# Altium schematic symbol library powerAMP.SchLib: 5 symbols
Pins are listed as number, name and electrical type; pins without a type are passive.

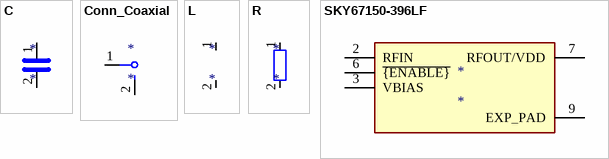
[diagram p0: symbols C to SKY67150-396LF]

## C
designator *
pins: 1, 2

## Conn_Coaxial
designator *
pins: 1 In, 2 Ext

## L
designator *
pins: 1, 2

## R
designator *
pins: 1, 2

## SKY67150-396LF
designator *
pins: 2 RFIN, 3 VBIAS, 6 ~{{ENABLE}}, 7 RFOUT/VDD, 9 EXP_PAD